# Altium footprint library PCB - RESISTOR - CHIP - RES 2512_6432_shunt.PCBLIB: 2 footprints
Each footprint in its own frame and in the unit in brackets; x right, y up, seen from the top. Pads: shape width x height; smd on the part's side, far side on the other; paste and mask are expansions set on the pad; w line width, h text height; cw(c..) or ccw(c..) is an arc to the next point about the centre after c.
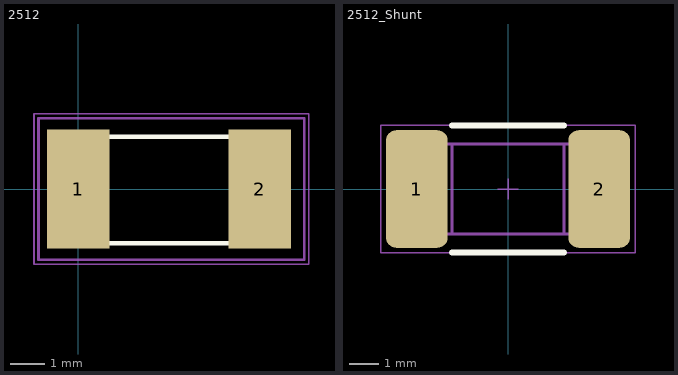
[diagram p0: the footprints below, top view; thin cyan lines are the x and y axes]

## 2512 [mm]
height 10.3
pads (2):
  rect 1.8x3.4 smd: 1(0,0) 2(5.2,0)
Top Overlay:
  lines w0.127: -0.575,-1.55 -0.575,1.5 5.775,1.5 5.775,-1.55 -0.575,-1.55
Top Assembly:
  lines w0.076: -1.143,-2.032 6.223,-2.032 6.477,-2.032 6.477,2.032 4.572,2.032 0.762,2.032 -1.143,2.032 -1.143,-2.032
  text ".Designator" at -0.127,2.54 h1.52
Top Courtyard (Mech7):
  lines w0.051: -1.27,-2.159 -1.27,2.159 6.604,2.159 6.604,-2.159 -1.27,-2.159
3D body "CSS2H-2512.stp": height 0.83, standoff 0, extent -0.575,-1.55 5.775,1.5

## 2512_Shunt [mm]
height 1.8
pads (2):
  rrect33% 2.1x4 smd: 1(-3.1,0) 2(3.1,0)
Top Overlay:
  lines w0.2: -1.905,-2.159 1.905,-2.159 ; -1.905,2.159 1.905,2.159
Top Assembly:
  lines w0.1: -1.905,-1.524 -1.905,1.524 ; 1.905,-1.524 1.905,1.524 ; -3.175,-1.524 -3.175,1.524 3.175,1.524 3.175,-1.524 -3.175,-1.524
Top Courtyard (Mech7):
  lines w0.05: -4.318,-2.159 -4.318,2.159 4.318,2.159 4.318,-2.159 -4.318,-2.159
Top Designator:
  text ".Designator" at -1.27,-0.381 h0.7
Top Component Center:
  lines w0.05: -0.35,0 0.35,0 ; 0,-0.35 0,0.35
3D body "CSS2H-2512.stp": height 0.83, standoff 0, extent -3.175,-1.524 3.175,1.526